# Altium integrated library Capacitor - Aluminium TH.IntLib: 4591 symbols (part 21 of 68)
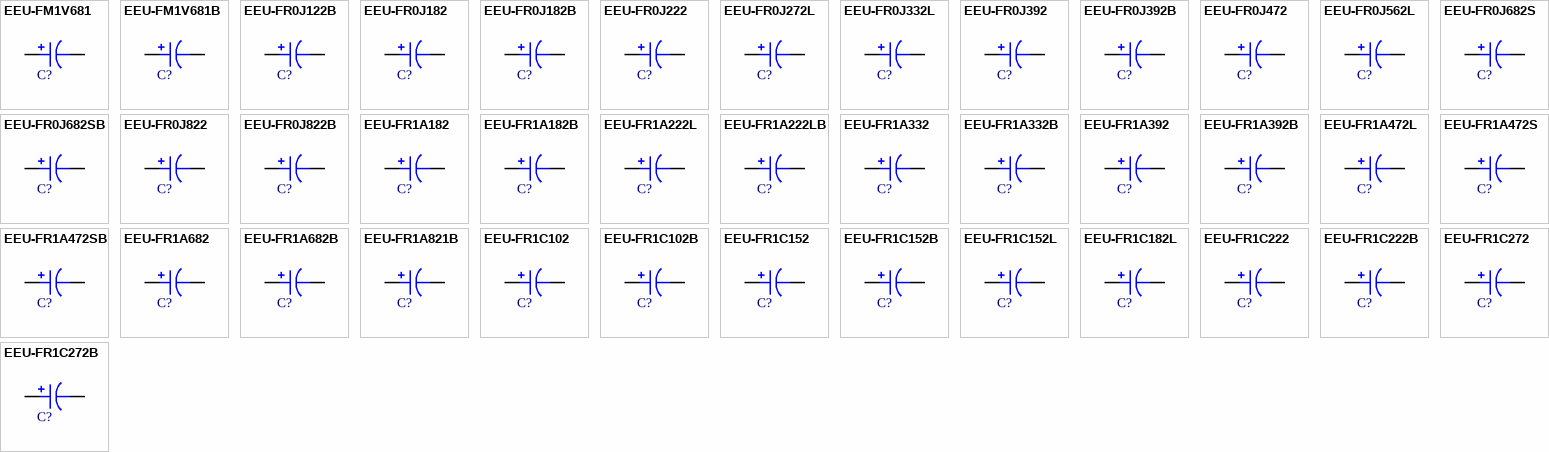
[diagram p134: symbols EEU-FM1V681 to EEU-FR1C272B]

## EEU-FR0J562L
designator C?, comment 5600uF  (value not drawn)
CAP ALUM 5600UF 20% 6.3V RADIAL; Part Number: EEU-FR0J562L; Manufacturer: Panasonic Electronic Components; TemperatureRange: -40C ~ 105C; Type: Polar; Ripple Current: 2.904A @ 120Hz; Impedance: 13 mOhm; Value: 5600uF; PartId: 24340; Supplier 1: Digi-Key; Supplier Part Number 1: P14369-ND; ComponentLink1Description: Datasheet; ComponentLink1URL: http://industrial.panasonic.com/cdbs/www-data/pdf/RDF0000/ABA0000C836.pdf; ComponentLink2Description: Digi-Key Listing; ComponentLink2URL: https://www.digikey.com/product-detail/en/panasonic-electronic-components/EEU-FR0J562L/P14369-ND/2433503; Tolerance: 20%; Voltage: 6.3V; Price: 1.31; Device Package: Radial, Can, 12.5mm
footprint CAP AL TH D12.5 L5 H35.5
pins: 1, 2

## EEU-FR0J682S
designator C?, comment 6800uF  (value not drawn)
CAP ALUM 6800UF 20% 6.3V RADIAL; Part Number: EEU-FR0J682S; Manufacturer: Panasonic Electronic Components; TemperatureRange: -40C ~ 105C; Type: Polar; Ripple Current: 2.64A @ 120Hz; Impedance: 17 mOhm; Value: 6800uF; PartId: 26459; Supplier 1: Digi-Key; Supplier Part Number 1: P14370-ND; ComponentLink1Description: Datasheet; ComponentLink1URL: http://industrial.panasonic.com/cdbs/www-data/pdf/RDF0000/ABA0000C836.pdf; ComponentLink2Description: Digi-Key Listing; ComponentLink2URL: https://www.digikey.com/product-detail/en/panasonic-electronic-components/EEU-FR0J682S/P14370-ND/2433504; Tolerance: 20%; Voltage: 6.3V; Price: 1.54; Device Package: Radial, Can, 16mm
footprint CAP AL TH D16 L7.5 H22
pins: 1, 2

## EEU-FR0J682SB
designator C?, comment 6800uF  (value not drawn)
CAP ALUM 6800UF 20% 6.3V RADIAL; Part Number: EEU-FR0J682SB; Manufacturer: Panasonic Electronic Components; TemperatureRange: -40C ~ 105C; Type: Polar; Ripple Current: 2.64A @ 120Hz; Impedance: 17 mOhm; Value: 6800uF; PartId: 26386; Supplier 1: Digi-Key; Supplier Part Number 1: P15313TB-ND; ComponentLink1Description: Datasheet; ComponentLink1URL: http://industrial.panasonic.com/cdbs/www-data/pdf/RDF0000/ABA0000C836.pdf; ComponentLink2Description: Digi-Key Listing; ComponentLink2URL: https://www.digikey.com/product-detail/en/panasonic-electronic-components/EEU-FR0J682SB/P15313TB-ND/2504134; Tolerance: 20%; Voltage: 6.3V; Price: 0.811; Device Package: Radial, Can, 16mm
footprint CAP AL TH D16 L7.5 H22
pins: 1, 2

## EEU-FR0J822
designator C?, comment 8200uF  (value not drawn)
CAP ALUM 8200UF 20% 6.3V RADIAL; Part Number: EEU-FR0J822; Manufacturer: Panasonic Electronic Components; TemperatureRange: -40C ~ 105C; Type: Polar; Ripple Current: 3.056A @ 120Hz; Impedance: 14 mOhm; Value: 8200uF; PartId: 26938; Supplier 1: Digi-Key; Supplier Part Number 1: P14372-ND; ComponentLink1Description: Datasheet; ComponentLink1URL: http://industrial.panasonic.com/cdbs/www-data/pdf/RDF0000/ABA0000C836.pdf; ComponentLink2Description: Digi-Key Listing; ComponentLink2URL: https://www.digikey.com/product-detail/en/panasonic-electronic-components/EEU-FR0J822/P14372-ND/2433506; Tolerance: 20%; Voltage: 6.3V; Price: 1.83; Device Package: Radial, Can, 16mm
footprint CAP AL TH D16 L7.5 H27
pins: 1, 2

## EEU-FR0J822B
designator C?, comment 8200uF  (value not drawn)
CAP ALUM 8200UF 20% 6.3V RADIAL; Part Number: EEU-FR0J822B; Manufacturer: Panasonic Electronic Components; TemperatureRange: -40C ~ 105C; Type: Polar; Ripple Current: 3.056A @ 120Hz; Impedance: 14 mOhm; Value: 8200uF; PartId: 26819; Supplier 1: Digi-Key; Supplier Part Number 1: P15315TB-ND; ComponentLink1Description: Datasheet; ComponentLink1URL: http://industrial.panasonic.com/cdbs/www-data/pdf/RDF0000/ABA0000C836.pdf; ComponentLink2Description: Digi-Key Listing; ComponentLink2URL: https://www.digikey.com/product-detail/en/panasonic-electronic-components/EEU-FR0J822B/P15315TB-ND/2504162; Tolerance: 20%; Voltage: 6.3V; Price: 0.9612; Device Package: Radial, Can, 16mm
footprint CAP AL TH D16 L7.5 H27
pins: 1, 2

## EEU-FR1A182
designator C?, comment 1800uF  (value not drawn)
CAP ALUM 1800UF 20% 10V RADIAL; Part Number: EEU-FR1A182; Manufacturer: Panasonic Electronic Components; TemperatureRange: -40C ~ 105C; Type: Polar; Ripple Current: 1.744A @ 120Hz; Impedance: 20 mOhm; Value: 1800uF; PartId: 25936; Supplier 1: Digi-Key; Supplier Part Number 1: P14381-ND; ComponentLink1Description: Datasheet; ComponentLink1URL: http://industrial.panasonic.com/cdbs/www-data/pdf/RDF0000/ABA0000C836.pdf; ComponentLink2Description: Digi-Key Listing; ComponentLink2URL: https://www.digikey.com/product-detail/en/panasonic-electronic-components/EEU-FR1A182/P14381-ND/2433515; Tolerance: 20%; Voltage: 10V; Price: 0.74; Device Package: Radial, Can, 10mm
footprint CAP AL TH D10 L5 H22
pins: 1, 2

## EEU-FR1A182B
designator C?, comment 1800uF  (value not drawn)
CAP ALUM 1800UF 20% 10V RADIAL; Part Number: EEU-FR1A182B; Manufacturer: Panasonic Electronic Components; TemperatureRange: -40C ~ 105C; Type: Polar; Ripple Current: 1.744A @ 120Hz; Impedance: 20 mOhm; Value: 1800uF; PartId: 25803; Supplier 1: Digi-Key; Supplier Part Number 1: P15321TB-ND; ComponentLink1Description: Datasheet; ComponentLink1URL: http://industrial.panasonic.com/cdbs/www-data/pdf/RDF0000/ABA0000C836.pdf; ComponentLink2Description: Digi-Key Listing; ComponentLink2URL: https://www.digikey.com/product-detail/en/panasonic-electronic-components/EEU-FR1A182B/P15321TB-ND/2504117; Tolerance: 20%; Voltage: 10V; Price: 0.2967; Device Package: Radial, Can, 10mm
footprint CAP AL TH D10 L5 H22
pins: 1, 2

## EEU-FR1A222L
designator C?, comment 2200uF  (value not drawn)
CAP ALUM 2200UF 20% 10V RADIAL; Part Number: EEU-FR1A222L; Manufacturer: Panasonic Electronic Components; TemperatureRange: -40C ~ 105C; Type: Polar; Ripple Current: 1.976A @ 120Hz; Impedance: 18 mOhm; Value: 2200uF; PartId: 26142; Supplier 1: Digi-Key; Supplier Part Number 1: P14382-ND; ComponentLink1Description: Datasheet; ComponentLink1URL: http://industrial.panasonic.com/cdbs/www-data/pdf/RDF0000/ABA0000C836.pdf; ComponentLink2Description: Digi-Key Listing; ComponentLink2URL: https://www.digikey.com/product-detail/en/panasonic-electronic-components/EEU-FR1A222L/P14382-ND/2433516; Tolerance: 20%; Voltage: 10V; Price: 0.84; Device Package: Radial, Can, 10mm
footprint CAP AL TH D10 L5 H30
pins: 1, 2

## EEU-FR1A222LB
designator C?, comment 2200uF  (value not drawn)
CAP ALUM 2200UF 20% 10V RADIAL; Part Number: EEU-FR1A222LB; Manufacturer: Panasonic Electronic Components; TemperatureRange: -40C ~ 105C; Type: Polar; Ripple Current: 1.976A @ 120Hz; Impedance: 18 mOhm; Value: 2200uF; PartId: 26020; Supplier 1: Digi-Key; Supplier Part Number 1: P15323TB-ND; ComponentLink1Description: Datasheet; ComponentLink1URL: http://industrial.panasonic.com/cdbs/www-data/pdf/RDF0000/ABA0000C836.pdf; ComponentLink2Description: Digi-Key Listing; ComponentLink2URL: https://www.digikey.com/product-detail/en/panasonic-electronic-components/EEU-FR1A222LB/P15323TB-ND/2504147; Tolerance: 20%; Voltage: 10V; Price: 0.365; Device Package: Radial, Can, 10mm
footprint CAP AL TH D10 L5 H30
pins: 1, 2

## EEU-FR1A332
designator C?, comment 3300uF  (value not drawn)
CAP ALUM 3300UF 20% 10V RADIAL; Part Number: EEU-FR1A332; Manufacturer: Panasonic Electronic Components; TemperatureRange: -40C ~ 105C; Type: Polar; Ripple Current: 2.08A @ 120Hz; Impedance: 18 mOhm; Value: 3300uF; PartId: 23427; Supplier 1: Digi-Key; Supplier Part Number 1: P14383-ND; ComponentLink1Description: Datasheet; ComponentLink1URL: http://industrial.panasonic.com/cdbs/www-data/pdf/RDF0000/ABA0000C836.pdf; ComponentLink2Description: Digi-Key Listing; ComponentLink2URL: https://www.digikey.com/product-detail/en/panasonic-electronic-components/EEU-FR1A332/P14383-ND/2433517; Tolerance: 20%; Voltage: 10V; Price: 1.01; Device Package: Radial, Can, 12.5mm
footprint CAP AL TH D12.5 L5 H22
pins: 1, 2

## EEU-FR1A332B
designator C?, comment 3300uF  (value not drawn)
CAP ALUM 3300UF 20% 10V RADIAL; Part Number: EEU-FR1A332B; Manufacturer: Panasonic Electronic Components; TemperatureRange: -40C ~ 105C; Type: Polar; Ripple Current: 2.08A @ 120Hz; Impedance: 18 mOhm; Value: 3300uF; PartId: 23190; Supplier 1: Digi-Key; Supplier Part Number 1: P15324TB-ND; ComponentLink1Description: Datasheet; ComponentLink1URL: http://industrial.panasonic.com/cdbs/www-data/pdf/RDF0000/ABA0000C836.pdf; ComponentLink2Description: Digi-Key Listing; ComponentLink2URL: https://www.digikey.com/product-detail/en/panasonic-electronic-components/EEU-FR1A332B/P15324TB-ND/2504171; Tolerance: 20%; Voltage: 10V; Price: 0.4379; Device Package: Radial, Can, 12.5mm
footprint CAP AL TH D12.5 L5 H22
pins: 1, 2

## EEU-FR1A392
designator C?, comment 3900uF  (value not drawn)
CAP ALUM 3900UF 20% 10V RADIAL; Part Number: EEU-FR1A392; Manufacturer: Panasonic Electronic Components; TemperatureRange: -40C ~ 105C; Type: Polar; Ripple Current: 2.552A @ 120Hz; Impedance: 15 mOhm; Value: 3900uF; PartId: 24027; Supplier 1: Digi-Key; Supplier Part Number 1: P14384-ND; ComponentLink1Description: Datasheet; ComponentLink1URL: http://industrial.panasonic.com/cdbs/www-data/pdf/RDF0000/ABA0000C836.pdf; ComponentLink2Description: Digi-Key Listing; ComponentLink2URL: https://www.digikey.com/product-detail/en/panasonic-electronic-components/EEU-FR1A392/P14384-ND/2433518; Tolerance: 20%; Voltage: 10V; Price: 1.08; Device Package: Radial, Can, 12.5mm
footprint CAP AL TH D12.5 L5 H27
pins: 1, 2

## EEU-FR1A392B
designator C?, comment 3900uF  (value not drawn)
CAP ALUM 3900UF 20% 10V RADIAL; Part Number: EEU-FR1A392B; Manufacturer: Panasonic Electronic Components; TemperatureRange: -40C ~ 105C; Type: Polar; Ripple Current: 2.552A @ 120Hz; Impedance: 15 mOhm; Value: 3900uF; PartId: 23838; Supplier 1: Digi-Key; Supplier Part Number 1: P15325TB-ND; ComponentLink1Description: Datasheet; ComponentLink1URL: http://industrial.panasonic.com/cdbs/www-data/pdf/RDF0000/ABA0000C836.pdf; ComponentLink2Description: Digi-Key Listing; ComponentLink2URL: https://www.digikey.com/product-detail/en/panasonic-electronic-components/EEU-FR1A392B/P15325TB-ND/2504175; Tolerance: 20%; Voltage: 10V; Price: 0.4851; Device Package: Radial, Can, 12.5mm
footprint CAP AL TH D12.5 L5 H27
pins: 1, 2

## EEU-FR1A472L
designator C?, comment 4700uF  (value not drawn)
CAP ALUM 4700UF 20% 10V RADIAL; Part Number: EEU-FR1A472L; Manufacturer: Panasonic Electronic Components; TemperatureRange: -40C ~ 105C; Type: Polar; Ripple Current: 2.904A @ 120Hz; Impedance: 13 mOhm; Value: 4700uF; PartId: 24338; Supplier 1: Digi-Key; Supplier Part Number 1: P14385-ND; ComponentLink1Description: Datasheet; ComponentLink1URL: http://industrial.panasonic.com/cdbs/www-data/pdf/RDF0000/ABA0000C836.pdf; ComponentLink2Description: Digi-Key Listing; ComponentLink2URL: https://www.digikey.com/product-detail/en/panasonic-electronic-components/EEU-FR1A472L/P14385-ND/2433519; Tolerance: 20%; Voltage: 10V; Price: 1.31; Device Package: Radial, Can, 12.5mm
footprint CAP AL TH D12.5 L5 H35.5
pins: 1, 2

## EEU-FR1A472S
designator C?, comment 4700uF  (value not drawn)
CAP ALUM 4700UF 20% 10V RADIAL; Part Number: EEU-FR1A472S; Manufacturer: Panasonic Electronic Components; TemperatureRange: -40C ~ 105C; Type: Polar; Ripple Current: 2.64A @ 120Hz; Impedance: 17 mOhm; Value: 4700uF; PartId: 26461; Supplier 1: Digi-Key; Supplier Part Number 1: P14386-ND; ComponentLink1Description: Datasheet; ComponentLink1URL: http://industrial.panasonic.com/cdbs/www-data/pdf/RDF0000/ABA0000C836.pdf; ComponentLink2Description: Digi-Key Listing; ComponentLink2URL: https://www.digikey.com/product-detail/en/panasonic-electronic-components/EEU-FR1A472S/P14386-ND/2433520; Tolerance: 20%; Voltage: 10V; Price: 1.54; Device Package: Radial, Can, 16mm
footprint CAP AL TH D16 L7.5 H22
pins: 1, 2

## EEU-FR1A472SB
designator C?, comment 4700uF  (value not drawn)
CAP ALUM 4700UF 20% 10V RADIAL; Part Number: EEU-FR1A472SB; Manufacturer: Panasonic Electronic Components; TemperatureRange: -40C ~ 105C; Type: Polar; Ripple Current: 2.64A @ 120Hz; Impedance: 17 mOhm; Value: 4700uF; PartId: 26389; Supplier 1: Digi-Key; Supplier Part Number 1: P15326TB-ND; ComponentLink1Description: Datasheet; ComponentLink1URL: http://industrial.panasonic.com/cdbs/www-data/pdf/RDF0000/ABA0000C836.pdf; ComponentLink2Description: Digi-Key Listing; ComponentLink2URL: https://www.digikey.com/product-detail/en/panasonic-electronic-components/EEU-FR1A472SB/P15326TB-ND/2504136; Tolerance: 20%; Voltage: 10V; Price: 0.811; Device Package: Radial, Can, 16mm
footprint CAP AL TH D16 L7.5 H22
pins: 1, 2

## EEU-FR1A682
designator C?, comment 6800uF  (value not drawn)
CAP ALUM 6800UF 20% 10V RADIAL; Part Number: EEU-FR1A682; Manufacturer: Panasonic Electronic Components; TemperatureRange: -40C ~ 105C; Type: Polar; Ripple Current: 3.056A @ 120Hz; Impedance: 14 mOhm; Value: 6800uF; PartId: 26937; Supplier 1: Digi-Key; Supplier Part Number 1: P14389-ND; ComponentLink1Description: Datasheet; ComponentLink1URL: http://industrial.panasonic.com/cdbs/www-data/pdf/RDF0000/ABA0000C836.pdf; ComponentLink2Description: Digi-Key Listing; ComponentLink2URL: https://www.digikey.com/product-detail/en/panasonic-electronic-components/EEU-FR1A682/P14389-ND/2433523; Tolerance: 20%; Voltage: 10V; Price: 1.83; Device Package: Radial, Can, 16mm
footprint CAP AL TH D16 L7.5 H27
pins: 1, 2

## EEU-FR1A682B
designator C?, comment 6800uF  (value not drawn)
CAP ALUM 6800UF 20% 10V RADIAL; Part Number: EEU-FR1A682B; Manufacturer: Panasonic Electronic Components; TemperatureRange: -40C ~ 105C; Type: Polar; Ripple Current: 3.056A @ 120Hz; Impedance: 14 mOhm; Value: 6800uF; PartId: 26820; Supplier 1: Digi-Key; Supplier Part Number 1: P15328TB-ND; ComponentLink1Description: Datasheet; ComponentLink1URL: http://industrial.panasonic.com/cdbs/www-data/pdf/RDF0000/ABA0000C836.pdf; ComponentLink2Description: Digi-Key Listing; ComponentLink2URL: https://www.digikey.com/product-detail/en/panasonic-electronic-components/EEU-FR1A682B/P15328TB-ND/2504163; Tolerance: 20%; Voltage: 10V; Price: 0.9612; Device Package: Radial, Can, 16mm
footprint CAP AL TH D16 L7.5 H27
pins: 1, 2

## EEU-FR1A821B
designator C?, comment 820uF  (value not drawn)
CAP ALUM 820UF 20% 10V RADIAL; Part Number: EEU-FR1A821B; Manufacturer: Panasonic Electronic Components; TemperatureRange: -40C ~ 105C; Type: Polar; Ripple Current: 967.5mA @ 120Hz; Impedance: 43 mOhm; Value: 820uF; PartId: 24642; Supplier 1: Digi-Key; Supplier Part Number 1: P15329TB-ND; ComponentLink1Description: Datasheet; ComponentLink1URL: http://industrial.panasonic.com/cdbs/www-data/pdf/RDF0000/ABA0000C836.pdf; ComponentLink2Description: Digi-Key Listing; ComponentLink2URL: https://www.digikey.com/product-detail/en/panasonic-electronic-components/EEU-FR1A821B/P15329TB-ND/2504088; Tolerance: 20%; Voltage: 10V; Price: 0.2464; Device Package: Radial, Can, 10mm
footprint CAP AL TH D10 L5 H14.5
pins: 1, 2

## EEU-FR1C102
designator C?, comment 1000uF  (value not drawn)
CAP ALUM 1000UF 20% 16V RADIAL; Part Number: EEU-FR1C102; Manufacturer: Panasonic Electronic Components; TemperatureRange: -40C ~ 105C; Type: Polar; Ripple Current: 1.3425A @ 120Hz; Impedance: 28 mOhm; Value: 1000uF; PartId: 25291; Supplier 1: Digi-Key; Supplier Part Number 1: P14398-ND; ComponentLink1Description: Datasheet; ComponentLink1URL: http://industrial.panasonic.com/cdbs/www-data/pdf/RDF0000/ABA0000C836.pdf; ComponentLink2Description: Digi-Key Listing; ComponentLink2URL: https://www.digikey.com/product-detail/en/panasonic-electronic-components/EEU-FR1C102/P14398-ND/2433532; Tolerance: 20%; Voltage: 16V; Price: 0.63; Device Package: Radial, Can, 10mm
footprint CAP AL TH D10 L5 H17.5
pins: 1, 2

## EEU-FR1C102B
designator C?, comment 1000uF  (value not drawn)
CAP ALUM 1000UF 20% 16V RADIAL; Part Number: EEU-FR1C102B; Manufacturer: Panasonic Electronic Components; TemperatureRange: -40C ~ 105C; Type: Polar; Ripple Current: 1.3425A @ 120Hz; Impedance: 28 mOhm; Value: 1000uF; PartId: 25086; Supplier 1: Digi-Key; Supplier Part Number 1: P15331TB-ND; ComponentLink1Description: Datasheet; ComponentLink1URL: http://industrial.panasonic.com/cdbs/www-data/pdf/RDF0000/ABA0000C836.pdf; ComponentLink2Description: Digi-Key Listing; ComponentLink2URL: https://www.digikey.com/product-detail/en/panasonic-electronic-components/EEU-FR1C102B/P15331TB-ND/2504095; Tolerance: 20%; Voltage: 16V; Price: 0.2506; Device Package: Radial, Can, 10mm
footprint CAP AL TH D10 L5 H17.5
pins: 1, 2

## EEU-FR1C152
designator C?, comment 1500uF  (value not drawn)
CAP ALUM 1500UF 20% 16V RADIAL; Part Number: EEU-FR1C152; Manufacturer: Panasonic Electronic Components; TemperatureRange: -40C ~ 105C; Type: Polar; Ripple Current: 1.744A @ 120Hz; Impedance: 20 mOhm; Value: 1500uF; PartId: 25921; Supplier 1: Digi-Key; Supplier Part Number 1: P14399-ND; ComponentLink1Description: Datasheet; ComponentLink1URL: http://industrial.panasonic.com/cdbs/www-data/pdf/RDF0000/ABA0000C836.pdf; ComponentLink2Description: Digi-Key Listing; ComponentLink2URL: https://www.digikey.com/product-detail/en/panasonic-electronic-components/EEU-FR1C152/P14399-ND/2433533; Tolerance: 20%; Voltage: 16V; Price: 0.72; Device Package: Radial, Can, 10mm
footprint CAP AL TH D10 L5 H22
pins: 1, 2

## EEU-FR1C152B
designator C?, comment 1500uF  (value not drawn)
CAP ALUM 1500UF 20% 16V RADIAL; Part Number: EEU-FR1C152B; Manufacturer: Panasonic Electronic Components; TemperatureRange: -40C ~ 105C; Type: Polar; Ripple Current: 1.744A @ 120Hz; Impedance: 20 mOhm; Value: 1500uF; PartId: 25802; Supplier 1: Digi-Key; Supplier Part Number 1: P15334TB-ND; ComponentLink1Description: Datasheet; ComponentLink1URL: http://industrial.panasonic.com/cdbs/www-data/pdf/RDF0000/ABA0000C836.pdf; ComponentLink2Description: Digi-Key Listing; ComponentLink2URL: https://www.digikey.com/product-detail/en/panasonic-electronic-components/EEU-FR1C152B/P15334TB-ND/2504110; Tolerance: 20%; Voltage: 16V; Price: 0.2967; Device Package: Radial, Can, 10mm
footprint CAP AL TH D10 L5 H22
pins: 1, 2

## EEU-FR1C152L
designator C?, comment 1500uF  (value not drawn)
CAP ALUM 1500UF 20% 16V RADIAL; Part Number: EEU-FR1C152L; Manufacturer: Panasonic Electronic Components; TemperatureRange: -40C ~ 105C; Type: Polar; Ripple Current: 1.976A @ 120Hz; Impedance: 18 mOhm; Value: 1500uF; PartId: 26159; Supplier 1: Digi-Key; Supplier Part Number 1: P14400-ND; ComponentLink1Description: Datasheet; ComponentLink1URL: http://industrial.panasonic.com/cdbs/www-data/pdf/RDF0000/ABA0000C836.pdf; ComponentLink2Description: Digi-Key Listing; ComponentLink2URL: https://www.digikey.com/product-detail/en/panasonic-electronic-components/EEU-FR1C152L/P14400-ND/2433534; Tolerance: 20%; Voltage: 16V; Price: 0.87; Device Package: Radial, Can, 10mm
footprint CAP AL TH D10 L5 H30
pins: 1, 2

## EEU-FR1C182L
designator C?, comment 1800uF  (value not drawn)
CAP ALUM 1800UF 20% 16V RADIAL; Part Number: EEU-FR1C182L; Manufacturer: Panasonic Electronic Components; TemperatureRange: -40C ~ 105C; Type: Polar; Ripple Current: 1.976A @ 120Hz; Impedance: 18 mOhm; Value: 1800uF; PartId: 26146; Supplier 1: Digi-Key; Supplier Part Number 1: P14401-ND; ComponentLink1Description: Datasheet; ComponentLink1URL: http://industrial.panasonic.com/cdbs/www-data/pdf/RDF0000/ABA0000C836.pdf; ComponentLink2Description: Digi-Key Listing; ComponentLink2URL: https://www.digikey.com/product-detail/en/panasonic-electronic-components/EEU-FR1C182L/P14401-ND/2433535; Tolerance: 20%; Voltage: 16V; Price: 0.84; Device Package: Radial, Can, 10mm
footprint CAP AL TH D10 L5 H30
pins: 1, 2

## EEU-FR1C222
designator C?, comment 2200uF  (value not drawn)
CAP ALUM 2200UF 20% 16V RADIAL; Part Number: EEU-FR1C222; Manufacturer: Panasonic Electronic Components; TemperatureRange: -40C ~ 105C; Type: Polar; Ripple Current: 2.08A @ 120Hz; Impedance: 18 mOhm; Value: 2200uF; PartId: 23426; Supplier 1: Digi-Key; Supplier Part Number 1: P14402-ND; ComponentLink1Description: Datasheet; ComponentLink1URL: http://industrial.panasonic.com/cdbs/www-data/pdf/RDF0000/ABA0000C836.pdf; ComponentLink2Description: Digi-Key Listing; ComponentLink2URL: https://www.digikey.com/product-detail/en/panasonic-electronic-components/EEU-FR1C222/P14402-ND/2433536; Tolerance: 20%; Voltage: 16V; Price: 1.01; Device Package: Radial, Can, 12.5mm
footprint CAP AL TH D12.5 L5 H22
pins: 1, 2

## EEU-FR1C222B
designator C?, comment 2200uF  (value not drawn)
CAP ALUM 2200UF 20% 16V RADIAL; Part Number: EEU-FR1C222B; Manufacturer: Panasonic Electronic Components; TemperatureRange: -40C ~ 105C; Type: Polar; Ripple Current: 2.08A @ 120Hz; Impedance: 18 mOhm; Value: 2200uF; PartId: 23194; Supplier 1: Digi-Key; Supplier Part Number 1: P15338TB-ND; ComponentLink1Description: Datasheet; ComponentLink1URL: http://industrial.panasonic.com/cdbs/www-data/pdf/RDF0000/ABA0000C836.pdf; ComponentLink2Description: Digi-Key Listing; ComponentLink2URL: https://www.digikey.com/product-detail/en/panasonic-electronic-components/EEU-FR1C222B/P15338TB-ND/2504170; Tolerance: 20%; Voltage: 16V; Price: 0.4379; Device Package: Radial, Can, 12.5mm
footprint CAP AL TH D12.5 L5 H22
pins: 1, 2

## EEU-FR1C272
designator C?, comment 2700uF  (value not drawn)
CAP ALUM 2700UF 20% 16V RADIAL; Part Number: EEU-FR1C272; Manufacturer: Panasonic Electronic Components; TemperatureRange: -40C ~ 105C; Type: Polar; Ripple Current: 2.552A @ 120Hz; Impedance: 15 mOhm; Value: 2700uF; PartId: 24020; Supplier 1: Digi-Key; Supplier Part Number 1: P14403-ND; ComponentLink1Description: Datasheet; ComponentLink1URL: http://industrial.panasonic.com/cdbs/www-data/pdf/RDF0000/ABA0000C836.pdf; ComponentLink2Description: Digi-Key Listing; ComponentLink2URL: https://www.digikey.com/product-detail/en/panasonic-electronic-components/EEU-FR1C272/P14403-ND/2433537; Tolerance: 20%; Voltage: 16V; Price: 1.08; Device Package: Radial, Can, 12.5mm
footprint CAP AL TH D12.5 L5 H27
pins: 1, 2

## EEU-FR1C272B
designator C?, comment 2700uF  (value not drawn)
CAP ALUM 2700UF 20% 16V RADIAL; Part Number: EEU-FR1C272B; Manufacturer: Panasonic Electronic Components; TemperatureRange: -40C ~ 105C; Type: Polar; Ripple Current: 2.552A @ 120Hz; Impedance: 15 mOhm; Value: 2700uF; PartId: 24079; Supplier 1: Digi-Key; Supplier Part Number 1: P15339CT-ND; ComponentLink1Description: Datasheet; ComponentLink1URL: http://industrial.panasonic.com/cdbs/www-data/pdf/RDF0000/ABA0000C836.pdf; ComponentLink2Description: Digi-Key Listing; ComponentLink2URL: https://www.digikey.com/product-detail/en/panasonic-electronic-components/EEU-FR1C272B/P15339CT-ND/3072219; Tolerance: 20%; Voltage: 16V; Price: 1.21; Device Package: Radial, Can, 12.5mm
footprint CAP AL TH D12.5 L5 H27
pins: 1, 2

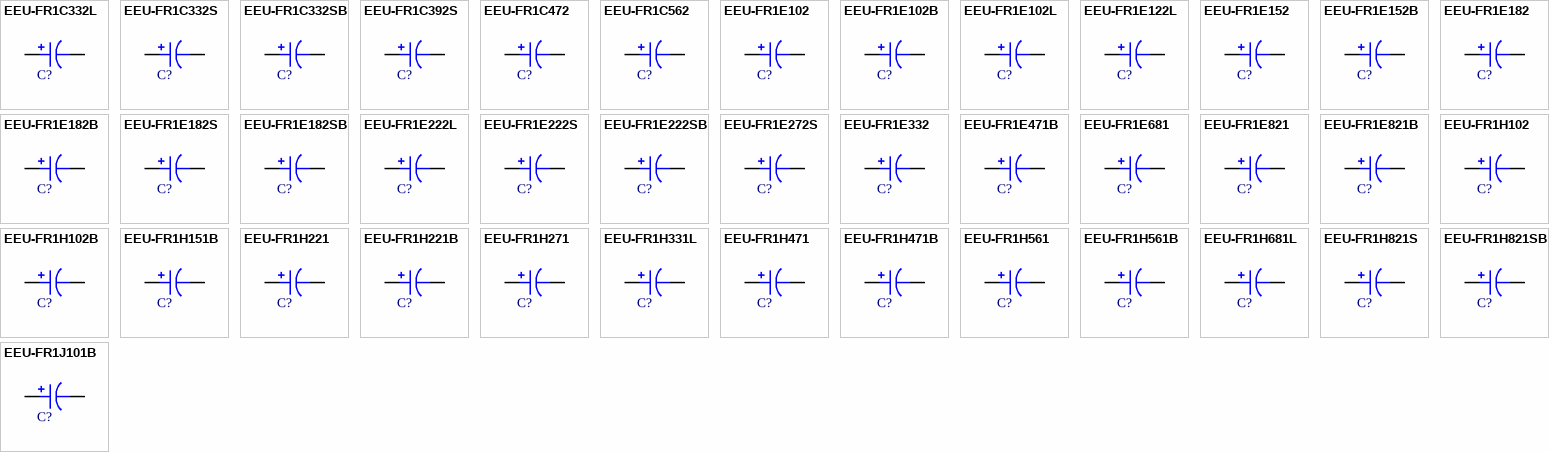
[diagram p34: symbols EEU-FR1C332L to EEU-FR1J101B]

## EEU-FR1C332L
designator C?, comment 3300uF  (value not drawn)
CAP ALUM 3300UF 20% 16V RADIAL; Part Number: EEU-FR1C332L; Manufacturer: Panasonic Electronic Components; TemperatureRange: -40C ~ 105C; Type: Polar; Ripple Current: 2.904A @ 120Hz; Impedance: 13 mOhm; Value: 3300uF; PartId: 24337; Supplier 1: Digi-Key; Supplier Part Number 1: P14404-ND; ComponentLink1Description: Datasheet; ComponentLink1URL: http://industrial.panasonic.com/cdbs/www-data/pdf/RDF0000/ABA0000C836.pdf; ComponentLink2Description: Digi-Key Listing; ComponentLink2URL: https://www.digikey.com/product-detail/en/panasonic-electronic-components/EEU-FR1C332L/P14404-ND/2433538; Tolerance: 20%; Voltage: 16V; Price: 1.31; Device Package: Radial, Can, 12.5mm
footprint CAP AL TH D12.5 L5 H35.5
pins: 1, 2

## EEU-FR1C332S
designator C?, comment 3300uF  (value not drawn)
CAP ALUM 3300UF 20% 16V RADIAL; Part Number: EEU-FR1C332S; Manufacturer: Panasonic Electronic Components; TemperatureRange: -40C ~ 105C; Type: Polar; Ripple Current: 2.64A @ 120Hz; Impedance: 17 mOhm; Value: 3300uF; PartId: 26463; Supplier 1: Digi-Key; Supplier Part Number 1: P14405-ND; ComponentLink1Description: Datasheet; ComponentLink1URL: http://industrial.panasonic.com/cdbs/www-data/pdf/RDF0000/ABA0000C836.pdf; ComponentLink2Description: Digi-Key Listing; ComponentLink2URL: https://www.digikey.com/product-detail/en/panasonic-electronic-components/EEU-FR1C332S/P14405-ND/2433539; Tolerance: 20%; Voltage: 16V; Price: 1.54; Device Package: Radial, Can, 16mm
footprint CAP AL TH D16 L7.5 H22
pins: 1, 2

## EEU-FR1C332SB
designator C?, comment 3300uF  (value not drawn)
CAP ALUM 3300UF 20% 16V RADIAL; Part Number: EEU-FR1C332SB; Manufacturer: Panasonic Electronic Components; TemperatureRange: -40C ~ 105C; Type: Polar; Ripple Current: 2.64A @ 120Hz; Impedance: 17 mOhm; Value: 3300uF; PartId: 26387; Supplier 1: Digi-Key; Supplier Part Number 1: P15340TB-ND; ComponentLink1Description: Datasheet; ComponentLink1URL: http://industrial.panasonic.com/cdbs/www-data/pdf/RDF0000/ABA0000C836.pdf; ComponentLink2Description: Digi-Key Listing; ComponentLink2URL: https://www.digikey.com/product-detail/en/panasonic-electronic-components/EEU-FR1C332SB/P15340TB-ND/2504139; Tolerance: 20%; Voltage: 16V; Price: 0.811; Device Package: Radial, Can, 16mm
footprint CAP AL TH D16 L7.5 H22
pins: 1, 2

## EEU-FR1C392S
designator C?, comment 3900uF  (value not drawn)
CAP ALUM 3900UF 20% 16V RADIAL; Part Number: EEU-FR1C392S; Manufacturer: Panasonic Electronic Components; TemperatureRange: -40C ~ 105C; Type: Polar; Ripple Current: 2.64A @ 120Hz; Impedance: 17 mOhm; Value: 3900uF; PartId: 26462; Supplier 1: Digi-Key; Supplier Part Number 1: P14406-ND; ComponentLink1Description: Datasheet; ComponentLink1URL: http://industrial.panasonic.com/cdbs/www-data/pdf/RDF0000/ABA0000C836.pdf; ComponentLink2Description: Digi-Key Listing; ComponentLink2URL: https://www.digikey.com/product-detail/en/panasonic-electronic-components/EEU-FR1C392S/P14406-ND/2433540; Tolerance: 20%; Voltage: 16V; Price: 1.54; Device Package: Radial, Can, 16mm
footprint CAP AL TH D16 L7.5 H22
pins: 1, 2

## EEU-FR1C472
designator C?, comment 4700uF  (value not drawn)
CAP ALUM 4700UF 20% 16V RADIAL; Part Number: EEU-FR1C472; Manufacturer: Panasonic Electronic Components; TemperatureRange: -40C ~ 105C; Type: Polar; Ripple Current: 3.056A @ 120Hz; Impedance: 14 mOhm; Value: 4700uF; PartId: 26935; Supplier 1: Digi-Key; Supplier Part Number 1: P14409-ND; ComponentLink1Description: Datasheet; ComponentLink1URL: http://industrial.panasonic.com/cdbs/www-data/pdf/RDF0000/ABA0000C836.pdf; ComponentLink2Description: Digi-Key Listing; ComponentLink2URL: https://www.digikey.com/product-detail/en/panasonic-electronic-components/EEU-FR1C472/P14409-ND/2433543; Tolerance: 20%; Voltage: 16V; Price: 1.83; Device Package: Radial, Can, 16mm
footprint CAP AL TH D16 L7.5 H27
pins: 1, 2

## EEU-FR1C562
designator C?, comment 5600uF  (value not drawn)
CAP ALUM 5600UF 20% 16V RADIAL; Part Number: EEU-FR1C562; Manufacturer: Panasonic Electronic Components; TemperatureRange: -40C ~ 105C; Type: Polar; Ripple Current: 3.056A @ 120Hz; Impedance: 14 mOhm; Value: 5600uF; PartId: 26923; Supplier 1: Digi-Key; Supplier Part Number 1: P14410-ND; ComponentLink1Description: Datasheet; ComponentLink1URL: http://industrial.panasonic.com/cdbs/www-data/pdf/RDF0000/ABA0000C836.pdf; ComponentLink2Description: Digi-Key Listing; ComponentLink2URL: https://www.digikey.com/product-detail/en/panasonic-electronic-components/EEU-FR1C562/P14410-ND/2433544; Tolerance: 20%; Voltage: 16V; Price: 1.71; Device Package: Radial, Can, 16mm
footprint CAP AL TH D16 L7.5 H27
pins: 1, 2

## EEU-FR1E102
designator C?, comment 1000uF  (value not drawn)
CAP ALUM 1000UF 20% 25V RADIAL; Part Number: EEU-FR1E102; Manufacturer: Panasonic Electronic Components; TemperatureRange: -40C ~ 105C; Type: Polar; Ripple Current: 1.635A @ 120Hz; Impedance: 20 mOhm; Value: 1000uF; PartId: 25957; Supplier 1: Digi-Key; Supplier Part Number 1: P14424-ND; ComponentLink1Description: Datasheet; ComponentLink1URL: http://industrial.panasonic.com/cdbs/www-data/pdf/RDF0000/ABA0000C836.pdf; ComponentLink2Description: Digi-Key Listing; ComponentLink2URL: https://www.digikey.com/product-detail/en/panasonic-electronic-components/EEU-FR1E102/P14424-ND/2433558; Tolerance: 20%; Voltage: 25V; Price: 0.81; Device Package: Radial, Can, 10mm
footprint CAP AL TH D10 L5 H22
pins: 1, 2

## EEU-FR1E102B
designator C?, comment 1000uF  (value not drawn)
CAP ALUM 1000UF 20% 25V RADIAL; Part Number: EEU-FR1E102B; Manufacturer: Panasonic Electronic Components; TemperatureRange: -40C ~ 105C; Type: Polar; Ripple Current: 1.635A @ 120Hz; Impedance: 20 mOhm; Value: 1000uF; PartId: 25821; Supplier 1: Digi-Key; Supplier Part Number 1: P15349TB-ND; ComponentLink1Description: Datasheet; ComponentLink1URL: http://industrial.panasonic.com/cdbs/www-data/pdf/RDF0000/ABA0000C836.pdf; ComponentLink2Description: Digi-Key Listing; ComponentLink2URL: https://www.digikey.com/product-detail/en/panasonic-electronic-components/EEU-FR1E102B/P15349TB-ND/2504133; Tolerance: 20%; Voltage: 25V; Price: 0.3391; Device Package: Radial, Can, 10mm
footprint CAP AL TH D10 L5 H22
pins: 1, 2

## EEU-FR1E102L
designator C?, comment 1000uF  (value not drawn)
CAP ALUM 1000UF 20% 25V RADIAL; Part Number: EEU-FR1E102L; Manufacturer: Panasonic Electronic Components; TemperatureRange: -40C ~ 105C; Type: Polar; Ripple Current: 1.8525A @ 120Hz; Impedance: 18 mOhm; Value: 1000uF; PartId: 26143; Supplier 1: Digi-Key; Supplier Part Number 1: P14425-ND; ComponentLink1Description: Datasheet; ComponentLink1URL: http://industrial.panasonic.com/cdbs/www-data/pdf/RDF0000/ABA0000C836.pdf; ComponentLink2Description: Digi-Key Listing; ComponentLink2URL: https://www.digikey.com/product-detail/en/panasonic-electronic-components/EEU-FR1E102L/P14425-ND/2433559; Tolerance: 20%; Voltage: 25V; Price: 0.84; Device Package: Radial, Can, 10mm
footprint CAP AL TH D10 L5 H30
pins: 1, 2

## EEU-FR1E122L
designator C?, comment 1200uF  (value not drawn)
CAP ALUM 1200UF 20% 25V RADIAL; Part Number: EEU-FR1E122L; Manufacturer: Panasonic Electronic Components; TemperatureRange: -40C ~ 105C; Type: Polar; Ripple Current: 1.976A @ 120Hz; Impedance: 18 mOhm; Value: 1200uF; PartId: 26160; Supplier 1: Digi-Key; Supplier Part Number 1: P14426-ND; ComponentLink1Description: Datasheet; ComponentLink1URL: http://industrial.panasonic.com/cdbs/www-data/pdf/RDF0000/ABA0000C836.pdf; ComponentLink2Description: Digi-Key Listing; ComponentLink2URL: https://www.digikey.com/product-detail/en/panasonic-electronic-components/EEU-FR1E122L/P14426-ND/2433560; Tolerance: 20%; Voltage: 25V; Price: 0.87; Device Package: Radial, Can, 10mm
footprint CAP AL TH D10 L5 H30
pins: 1, 2

## EEU-FR1E152
designator C?, comment 1500uF  (value not drawn)
CAP ALUM 1500UF 20% 25V RADIAL; Part Number: EEU-FR1E152; Manufacturer: Panasonic Electronic Components; TemperatureRange: -40C ~ 105C; Type: Polar; Ripple Current: 2.08A @ 120Hz; Impedance: 18 mOhm; Value: 1500uF; PartId: 23445; Supplier 1: Digi-Key; Supplier Part Number 1: P14427-ND; ComponentLink1Description: Datasheet; ComponentLink1URL: http://industrial.panasonic.com/cdbs/www-data/pdf/RDF0000/ABA0000C836.pdf; ComponentLink2Description: Digi-Key Listing; ComponentLink2URL: https://www.digikey.com/product-detail/en/panasonic-electronic-components/EEU-FR1E152/P14427-ND/2433561; Tolerance: 20%; Voltage: 25V; Price: 1.04; Device Package: Radial, Can, 12.5mm
footprint CAP AL TH D12.5 L5 H22
pins: 1, 2

## EEU-FR1E152B
designator C?, comment 1500uF  (value not drawn)
CAP ALUM 1500UF 20% 25V RADIAL; Part Number: EEU-FR1E152B; Manufacturer: Panasonic Electronic Components; TemperatureRange: -40C ~ 105C; Type: Polar; Ripple Current: 2.08A @ 120Hz; Impedance: 18 mOhm; Value: 1500uF; PartId: 23192; Supplier 1: Digi-Key; Supplier Part Number 1: P15353TB-ND; ComponentLink1Description: Datasheet; ComponentLink1URL: http://industrial.panasonic.com/cdbs/www-data/pdf/RDF0000/ABA0000C836.pdf; ComponentLink2Description: Digi-Key Listing; ComponentLink2URL: https://www.digikey.com/product-detail/en/panasonic-electronic-components/EEU-FR1E152B/P15353TB-ND/2504168; Tolerance: 20%; Voltage: 25V; Price: 0.4379; Device Package: Radial, Can, 12.5mm
footprint CAP AL TH D12.5 L5 H22
pins: 1, 2

## EEU-FR1E182
designator C?, comment 1800uF  (value not drawn)
CAP ALUM 1800UF 20% 25V RADIAL; Part Number: EEU-FR1E182; Manufacturer: Panasonic Electronic Components; TemperatureRange: -40C ~ 105C; Type: Polar; Ripple Current: 2.552A @ 120Hz; Impedance: 15 mOhm; Value: 1800uF; PartId: 24024; Supplier 1: Digi-Key; Supplier Part Number 1: P14432-ND; ComponentLink1Description: Datasheet; ComponentLink1URL: http://industrial.panasonic.com/cdbs/www-data/pdf/RDF0000/ABA0000C836.pdf; ComponentLink2Description: Digi-Key Listing; ComponentLink2URL: https://www.digikey.com/product-detail/en/panasonic-electronic-components/EEU-FR1E182/P14432-ND/2433566; Tolerance: 20%; Voltage: 25V; Price: 1.08; Device Package: Radial, Can, 12.5mm
footprint CAP AL TH D12.5 L5 H27
pins: 1, 2

## EEU-FR1E182B
designator C?, comment 1800uF  (value not drawn)
CAP ALUM 1800UF 20% 25V RADIAL; Part Number: EEU-FR1E182B; Manufacturer: Panasonic Electronic Components; TemperatureRange: -40C ~ 105C; Type: Polar; Ripple Current: 2.552A @ 120Hz; Impedance: 15 mOhm; Value: 1800uF; PartId: 23837; Supplier 1: Digi-Key; Supplier Part Number 1: P15354TB-ND; ComponentLink1Description: Datasheet; ComponentLink1URL: http://industrial.panasonic.com/cdbs/www-data/pdf/RDF0000/ABA0000C836.pdf; ComponentLink2Description: Digi-Key Listing; ComponentLink2URL: https://www.digikey.com/product-detail/en/panasonic-electronic-components/EEU-FR1E182B/P15354TB-ND/2504178; Tolerance: 20%; Voltage: 25V; Price: 0.4851; Device Package: Radial, Can, 12.5mm
footprint CAP AL TH D12.5 L5 H27
pins: 1, 2

## EEU-FR1E182S
designator C?, comment 1800uF  (value not drawn)
CAP ALUM 1800UF 20% 25V RADIAL; Part Number: EEU-FR1E182S; Manufacturer: Panasonic Electronic Components; TemperatureRange: -40C ~ 105C; Type: Polar; Ripple Current: 2.64A @ 120Hz; Impedance: 17 mOhm; Value: 1800uF; PartId: 26483; Supplier 1: Digi-Key; Supplier Part Number 1: P16747-ND; ComponentLink1Description: Datasheet; ComponentLink1URL: http://industrial.panasonic.com/cdbs/www-data/pdf/RDF0000/ABA0000C836.pdf; ComponentLink2Description: Digi-Key Listing; ComponentLink2URL: https://www.digikey.com/product-detail/en/panasonic-electronic-components/EEU-FR1E182S/P16747-ND/4289596; Tolerance: 20%; Voltage: 25V; Price: 1.81; Device Package: Radial, Can, 16mm
footprint CAP AL TH D16 L7.5 H22
pins: 1, 2

## EEU-FR1E182SB
designator C?, comment 1800uF  (value not drawn)
CAP ALUM 1800UF 20% 25V RADIAL; Part Number: EEU-FR1E182SB; Manufacturer: Panasonic Electronic Components; TemperatureRange: -40C ~ 105C; Type: Polar; Ripple Current: 2.64A @ 120Hz; Impedance: 17 mOhm; Value: 1800uF; PartId: 26403; Supplier 1: Digi-Key; Supplier Part Number 1: P16748TB-ND; ComponentLink1Description: Datasheet; ComponentLink1URL: http://industrial.panasonic.com/cdbs/www-data/pdf/RDF0000/ABA0000C836.pdf; ComponentLink2Description: Digi-Key Listing; ComponentLink2URL: https://www.digikey.com/product-detail/en/panasonic-electronic-components/EEU-FR1E182SB/P16748TB-ND/4289601; Tolerance: 20%; Voltage: 25V; Price: 0.953; Device Package: Radial, Can, 16mm
footprint CAP AL TH D16 L7.5 H22
pins: 1, 2

## EEU-FR1E222L
designator C?, comment 2200uF  (value not drawn)
CAP ALUM 2200UF 20% 25V RADIAL; Part Number: EEU-FR1E222L; Manufacturer: Panasonic Electronic Components; TemperatureRange: -40C ~ 105C; Type: Polar; Ripple Current: 2.904A @ 120Hz; Impedance: 13 mOhm; Value: 2200uF; PartId: 24323; Supplier 1: Digi-Key; Supplier Part Number 1: P14428-ND; ComponentLink1Description: Datasheet; ComponentLink1URL: http://industrial.panasonic.com/cdbs/www-data/pdf/RDF0000/ABA0000C836.pdf; ComponentLink2Description: Digi-Key Listing; ComponentLink2URL: https://www.digikey.com/product-detail/en/panasonic-electronic-components/EEU-FR1E222L/P14428-ND/2433562; Tolerance: 20%; Voltage: 25V; Price: 1.27; Device Package: Radial, Can, 12.5mm
footprint CAP AL TH D12.5 L5 H35.5
pins: 1, 2

## EEU-FR1E222S
designator C?, comment 2200uF  (value not drawn)
CAP ALUM 2200UF 20% 25V RADIAL; Part Number: EEU-FR1E222S; Manufacturer: Panasonic Electronic Components; TemperatureRange: -40C ~ 105C; Type: Polar; Ripple Current: 2.64A @ 120Hz; Impedance: 17 mOhm; Value: 2200uF; PartId: 26457; Supplier 1: Digi-Key; Supplier Part Number 1: P14429-ND; ComponentLink1Description: Datasheet; ComponentLink1URL: http://industrial.panasonic.com/cdbs/www-data/pdf/RDF0000/ABA0000C836.pdf; ComponentLink2Description: Digi-Key Listing; ComponentLink2URL: https://www.digikey.com/product-detail/en/panasonic-electronic-components/EEU-FR1E222S/P14429-ND/2433563; Tolerance: 20%; Voltage: 25V; Price: 1.54; Device Package: Radial, Can, 16mm
footprint CAP AL TH D16 L7.5 H22
pins: 1, 2

## EEU-FR1E222SB
designator C?, comment 2200uF  (value not drawn)
CAP ALUM 2200UF 20% 25V RADIAL; Part Number: EEU-FR1E222SB; Manufacturer: Panasonic Electronic Components; TemperatureRange: -40C ~ 105C; Type: Polar; Ripple Current: 2.64A @ 120Hz; Impedance: 17 mOhm; Value: 2200uF; PartId: 26388; Supplier 1: Digi-Key; Supplier Part Number 1: P15355TB-ND; ComponentLink1Description: Datasheet; ComponentLink1URL: http://industrial.panasonic.com/cdbs/www-data/pdf/RDF0000/ABA0000C836.pdf; ComponentLink2Description: Digi-Key Listing; ComponentLink2URL: https://www.digikey.com/product-detail/en/panasonic-electronic-components/EEU-FR1E222SB/P15355TB-ND/2504137; Tolerance: 20%; Voltage: 25V; Price: 0.811; Device Package: Radial, Can, 16mm
footprint CAP AL TH D16 L7.5 H22
pins: 1, 2

## EEU-FR1E272S
designator C?, comment 2700uF  (value not drawn)
CAP ALUM 2700UF 20% 25V RADIAL; Part Number: EEU-FR1E272S; Manufacturer: Panasonic Electronic Components; TemperatureRange: -40C ~ 105C; Type: Polar; Ripple Current: 2.64A @ 120Hz; Impedance: 17 mOhm; Value: 2700uF; PartId: 26464; Supplier 1: Digi-Key; Supplier Part Number 1: P14430-ND; ComponentLink1Description: Datasheet; ComponentLink1URL: http://industrial.panasonic.com/cdbs/www-data/pdf/RDF0000/ABA0000C836.pdf; ComponentLink2Description: Digi-Key Listing; ComponentLink2URL: https://www.digikey.com/product-detail/en/panasonic-electronic-components/EEU-FR1E272S/P14430-ND/2433564; Tolerance: 20%; Voltage: 25V; Price: 1.54; Device Package: Radial, Can, 16mm
footprint CAP AL TH D16 L7.5 H22
pins: 1, 2

## EEU-FR1E332
designator C?, comment 3300uF  (value not drawn)
CAP ALUM 3300UF 20% 25V RADIAL; Part Number: EEU-FR1E332; Manufacturer: Panasonic Electronic Components; TemperatureRange: -40C ~ 105C; Type: Polar; Ripple Current: 3.056A @ 120Hz; Impedance: 14 mOhm; Value: 3300uF; PartId: 26936; Supplier 1: Digi-Key; Supplier Part Number 1: P14433-ND; ComponentLink1Description: Datasheet; ComponentLink1URL: http://industrial.panasonic.com/cdbs/www-data/pdf/RDF0000/ABA0000C836.pdf; ComponentLink2Description: Digi-Key Listing; ComponentLink2URL: https://www.digikey.com/product-detail/en/panasonic-electronic-components/EEU-FR1E332/P14433-ND/2433567; Tolerance: 20%; Voltage: 25V; Price: 1.83; Device Package: Radial, Can, 16mm
footprint CAP AL TH D16 L7.5 H27
pins: 1, 2

## EEU-FR1E471B
designator C?, comment 470uF  (value not drawn)
CAP ALUM 470UF 20% 25V RADIAL; Part Number: EEU-FR1E471B; Manufacturer: Panasonic Electronic Components; TemperatureRange: -40C ~ 105C; Type: Polar; Ripple Current: 967.5mA @ 120Hz; Impedance: 43 mOhm; Value: 470uF; PartId: 24640; Supplier 1: Digi-Key; Supplier Part Number 1: P15361TB-ND; ComponentLink1Description: Datasheet; ComponentLink1URL: http://industrial.panasonic.com/cdbs/www-data/pdf/RDF0000/ABA0000C836.pdf; ComponentLink2Description: Digi-Key Listing; ComponentLink2URL: https://www.digikey.com/product-detail/en/panasonic-electronic-components/EEU-FR1E471B/P15361TB-ND/2504090; Tolerance: 20%; Voltage: 25V; Price: 0.2464; Device Package: Radial, Can, 10mm
footprint CAP AL TH D10 L5 H14.5
pins: 1, 2

## EEU-FR1E681
designator C?, comment 680uF  (value not drawn)
CAP ALUM 680UF 20% 25V RADIAL; Part Number: EEU-FR1E681; Manufacturer: Panasonic Electronic Components; TemperatureRange: -40C ~ 105C; Type: Polar; Ripple Current: 1.3425A @ 120Hz; Impedance: 28 mOhm; Value: 680uF; PartId: 25288; Supplier 1: Digi-Key; Supplier Part Number 1: P14422-ND; ComponentLink1Description: Datasheet; ComponentLink1URL: http://industrial.panasonic.com/cdbs/www-data/pdf/RDF0000/ABA0000C836.pdf; ComponentLink2Description: Digi-Key Listing; ComponentLink2URL: https://www.digikey.com/product-detail/en/panasonic-electronic-components/EEU-FR1E681/P14422-ND/2433556; Tolerance: 20%; Voltage: 25V; Price: 0.63; Device Package: Radial, Can, 10mm
footprint CAP AL TH D10 L5 H17.5
pins: 1, 2

## EEU-FR1E821
designator C?, comment 820uF  (value not drawn)
CAP ALUM 820UF 20% 25V RADIAL; Part Number: EEU-FR1E821; Manufacturer: Panasonic Electronic Components; TemperatureRange: -40C ~ 105C; Type: Polar; Ripple Current: 1.635A @ 120Hz; Impedance: 20 mOhm; Value: 820uF; PartId: 25922; Supplier 1: Digi-Key; Supplier Part Number 1: P14423-ND; ComponentLink1Description: Datasheet; ComponentLink1URL: http://industrial.panasonic.com/cdbs/www-data/pdf/RDF0000/ABA0000C836.pdf; ComponentLink2Description: Digi-Key Listing; ComponentLink2URL: https://www.digikey.com/product-detail/en/panasonic-electronic-components/EEU-FR1E821/P14423-ND/2433557; Tolerance: 20%; Voltage: 25V; Price: 0.72; Device Package: Radial, Can, 10mm
footprint CAP AL TH D10 L5 H22
pins: 1, 2

## EEU-FR1E821B
designator C?, comment 820uF  (value not drawn)
CAP ALUM 820UF 20% 25V RADIAL; Part Number: EEU-FR1E821B; Manufacturer: Panasonic Electronic Components; TemperatureRange: -40C ~ 105C; Type: Polar; Ripple Current: 1.635A @ 120Hz; Impedance: 20 mOhm; Value: 820uF; PartId: 25800; Supplier 1: Digi-Key; Supplier Part Number 1: P15368TB-ND; ComponentLink1Description: Datasheet; ComponentLink1URL: http://industrial.panasonic.com/cdbs/www-data/pdf/RDF0000/ABA0000C836.pdf; ComponentLink2Description: Digi-Key Listing; ComponentLink2URL: https://www.digikey.com/product-detail/en/panasonic-electronic-components/EEU-FR1E821B/P15368TB-ND/2504108; Tolerance: 20%; Voltage: 25V; Price: 0.2863; Device Package: Radial, Can, 10mm
footprint CAP AL TH D10 L5 H22
pins: 1, 2

## EEU-FR1H102
designator C?, comment 1000uF  (value not drawn)
CAP ALUM 1000UF 20% 50V RADIAL; Part Number: EEU-FR1H102; Manufacturer: Panasonic Electronic Components; TemperatureRange: -40C ~ 105C; Type: Polar; Ripple Current: 2.49A @ 120Hz; Impedance: 16 mOhm; Value: 1000uF; PartId: 26925; Supplier 1: Digi-Key; Supplier Part Number 1: P14466-ND; ComponentLink1Description: Datasheet; ComponentLink1URL: http://industrial.panasonic.com/cdbs/www-data/pdf/RDF0000/ABA0000C836.pdf; ComponentLink2Description: Digi-Key Listing; ComponentLink2URL: https://www.digikey.com/product-detail/en/panasonic-electronic-components/EEU-FR1H102/P14466-ND/2433600; Tolerance: 20%; Voltage: 50V; Price: 1.76; Device Package: Radial, Can, 16mm
footprint CAP AL TH D16 L7.5 H27
pins: 1, 2

## EEU-FR1H102B
designator C?, comment 1000uF  (value not drawn)
CAP ALUM 1000UF 20% 50V RADIAL; Part Number: EEU-FR1H102B; Manufacturer: Panasonic Electronic Components; TemperatureRange: -40C ~ 105C; Type: Polar; Ripple Current: 2.49A @ 120Hz; Impedance: 16 mOhm; Value: 1000uF; PartId: 26817; Supplier 1: Digi-Key; Supplier Part Number 1: P15370TB-ND; ComponentLink1Description: Datasheet; ComponentLink1URL: http://industrial.panasonic.com/cdbs/www-data/pdf/RDF0000/ABA0000C836.pdf; ComponentLink2Description: Digi-Key Listing; ComponentLink2URL: https://www.digikey.com/product-detail/en/panasonic-electronic-components/EEU-FR1H102B/P15370TB-ND/2504166; Tolerance: 20%; Voltage: 50V; Price: 0.9612; Device Package: Radial, Can, 16mm
footprint CAP AL TH D16 L7.5 H27
pins: 1, 2

## EEU-FR1H151B
designator C?, comment 150uF  (value not drawn)
CAP ALUM 150UF 20% 50V RADIAL; Part Number: EEU-FR1H151B; Manufacturer: Panasonic Electronic Components; TemperatureRange: -40C ~ 105C; Type: Polar; Ripple Current: 819mA @ 120Hz; Impedance: 42 mOhm; Value: 150uF; PartId: 24639; Supplier 1: Digi-Key; Supplier Part Number 1: P15372TB-ND; ComponentLink1Description: Datasheet; ComponentLink1URL: http://industrial.panasonic.com/cdbs/www-data/pdf/RDF0000/ABA0000C836.pdf; ComponentLink2Description: Digi-Key Listing; ComponentLink2URL: https://www.digikey.com/product-detail/en/panasonic-electronic-components/EEU-FR1H151B/P15372TB-ND/2504085; Tolerance: 20%; Voltage: 50V; Price: 0.2424; Device Package: Radial, Can, 10mm
footprint CAP AL TH D10 L5 H14.5
pins: 1, 2

## EEU-FR1H221
designator C?, comment 220uF  (value not drawn)
CAP ALUM 220UF 20% 50V RADIAL; Part Number: EEU-FR1H221; Manufacturer: Panasonic Electronic Components; TemperatureRange: -40C ~ 105C; Type: Polar; Ripple Current: 1.155A @ 120Hz; Impedance: 30 mOhm; Value: 220uF; PartId: 25293; Supplier 1: Digi-Key; Supplier Part Number 1: P14458-ND; ComponentLink1Description: Datasheet; ComponentLink1URL: http://industrial.panasonic.com/cdbs/www-data/pdf/RDF0000/ABA0000C836.pdf; ComponentLink2Description: Digi-Key Listing; ComponentLink2URL: https://www.digikey.com/product-detail/en/panasonic-electronic-components/EEU-FR1H221/P14458-ND/2433592; Tolerance: 20%; Voltage: 50V; Price: 0.63; Device Package: Radial, Can, 10mm
footprint CAP AL TH D10 L5 H17.5
pins: 1, 2

## EEU-FR1H221B
designator C?, comment 220uF  (value not drawn)
CAP ALUM 220UF 20% 50V RADIAL; Part Number: EEU-FR1H221B; Manufacturer: Panasonic Electronic Components; TemperatureRange: -40C ~ 105C; Type: Polar; Ripple Current: 1.155A @ 120Hz; Impedance: 30 mOhm; Value: 220uF; PartId: 25090; Supplier 1: Digi-Key; Supplier Part Number 1: P15375TB-ND; ComponentLink1Description: Datasheet; ComponentLink1URL: http://industrial.panasonic.com/cdbs/www-data/pdf/RDF0000/ABA0000C836.pdf; ComponentLink2Description: Digi-Key Listing; ComponentLink2URL: https://www.digikey.com/product-detail/en/panasonic-electronic-components/EEU-FR1H221B/P15375TB-ND/2504092; Tolerance: 20%; Voltage: 50V; Price: 0.2597; Device Package: Radial, Can, 10mm
footprint CAP AL TH D10 L5 H17.5
pins: 1, 2

## EEU-FR1H271
designator C?, comment 270uF  (value not drawn)
CAP ALUM 270UF 20% 50V RADIAL; Part Number: EEU-FR1H271; Manufacturer: Panasonic Electronic Components; TemperatureRange: -40C ~ 105C; Type: Polar; Ripple Current: 1.323A @ 120Hz; Impedance: 23 mOhm; Value: 270uF; PartId: 25937; Supplier 1: Digi-Key; Supplier Part Number 1: P14459-ND; ComponentLink1Description: Datasheet; ComponentLink1URL: http://industrial.panasonic.com/cdbs/www-data/pdf/RDF0000/ABA0000C836.pdf; ComponentLink2Description: Digi-Key Listing; ComponentLink2URL: https://www.digikey.com/product-detail/en/panasonic-electronic-components/EEU-FR1H271/P14459-ND/2433593; Tolerance: 20%; Voltage: 50V; Price: 0.74; Device Package: Radial, Can, 10mm
footprint CAP AL TH D10 L5 H22
pins: 1, 2

## EEU-FR1H331L
designator C?, comment 330uF  (value not drawn)
CAP ALUM 330UF 20% 50V RADIAL; Part Number: EEU-FR1H331L; Manufacturer: Panasonic Electronic Components; TemperatureRange: -40C ~ 105C; Type: Polar; Ripple Current: 1.505A @ 120Hz; Impedance: 22 mOhm; Value: 330uF; PartId: 26144; Supplier 1: Digi-Key; Supplier Part Number 1: P14460-ND; ComponentLink1Description: Datasheet; ComponentLink1URL: http://industrial.panasonic.com/cdbs/www-data/pdf/RDF0000/ABA0000C836.pdf; ComponentLink2Description: Digi-Key Listing; ComponentLink2URL: https://www.digikey.com/product-detail/en/panasonic-electronic-components/EEU-FR1H331L/P14460-ND/2433594; Tolerance: 20%; Voltage: 50V; Price: 0.84; Device Package: Radial, Can, 10mm
footprint CAP AL TH D10 L5 H30
pins: 1, 2

## EEU-FR1H471
designator C?, comment 470uF  (value not drawn)
CAP ALUM 470UF 20% 50V RADIAL; Part Number: EEU-FR1H471; Manufacturer: Panasonic Electronic Components; TemperatureRange: -40C ~ 105C; Type: Polar; Ripple Current: 1.695A @ 120Hz; Impedance: 22 mOhm; Value: 470uF; PartId: 23443; Supplier 1: Digi-Key; Supplier Part Number 1: P14461-ND; ComponentLink1Description: Datasheet; ComponentLink1URL: http://industrial.panasonic.com/cdbs/www-data/pdf/RDF0000/ABA0000C836.pdf; ComponentLink2Description: Digi-Key Listing; ComponentLink2URL: https://www.digikey.com/product-detail/en/panasonic-electronic-components/EEU-FR1H471/P14461-ND/2433595; Tolerance: 20%; Voltage: 50V; Price: 1.04; Device Package: Radial, Can, 12.5mm
footprint CAP AL TH D12.5 L5 H22
pins: 1, 2

## EEU-FR1H471B
designator C?, comment 470uF  (value not drawn)
CAP ALUM 470UF 20% 50V RADIAL; Part Number: EEU-FR1H471B; Manufacturer: Panasonic Electronic Components; TemperatureRange: -40C ~ 105C; Type: Polar; Ripple Current: 1.695A @ 120Hz; Impedance: 22 mOhm; Value: 470uF; PartId: 23193; Supplier 1: Digi-Key; Supplier Part Number 1: P15378TB-ND; ComponentLink1Description: Datasheet; ComponentLink1URL: http://industrial.panasonic.com/cdbs/www-data/pdf/RDF0000/ABA0000C836.pdf; ComponentLink2Description: Digi-Key Listing; ComponentLink2URL: https://www.digikey.com/product-detail/en/panasonic-electronic-components/EEU-FR1H471B/P15378TB-ND/2504172; Tolerance: 20%; Voltage: 50V; Price: 0.4379; Device Package: Radial, Can, 12.5mm
footprint CAP AL TH D12.5 L5 H22
pins: 1, 2

## EEU-FR1H561
designator C?, comment 560uF  (value not drawn)
CAP ALUM 560UF 20% 50V RADIAL; Part Number: EEU-FR1H561; Manufacturer: Panasonic Electronic Components; TemperatureRange: -40C ~ 105C; Type: Polar; Ripple Current: 1.995A @ 120Hz; Impedance: 18 mOhm; Value: 560uF; PartId: 24026; Supplier 1: Digi-Key; Supplier Part Number 1: P14462-ND; ComponentLink1Description: Datasheet; ComponentLink1URL: http://industrial.panasonic.com/cdbs/www-data/pdf/RDF0000/ABA0000C836.pdf; ComponentLink2Description: Digi-Key Listing; ComponentLink2URL: https://www.digikey.com/product-detail/en/panasonic-electronic-components/EEU-FR1H561/P14462-ND/2433596; Tolerance: 20%; Voltage: 50V; Price: 1.08; Device Package: Radial, Can, 12.5mm
footprint CAP AL TH D12.5 L5 H27
pins: 1, 2